# EAGLE library part SD-CARD (library library)
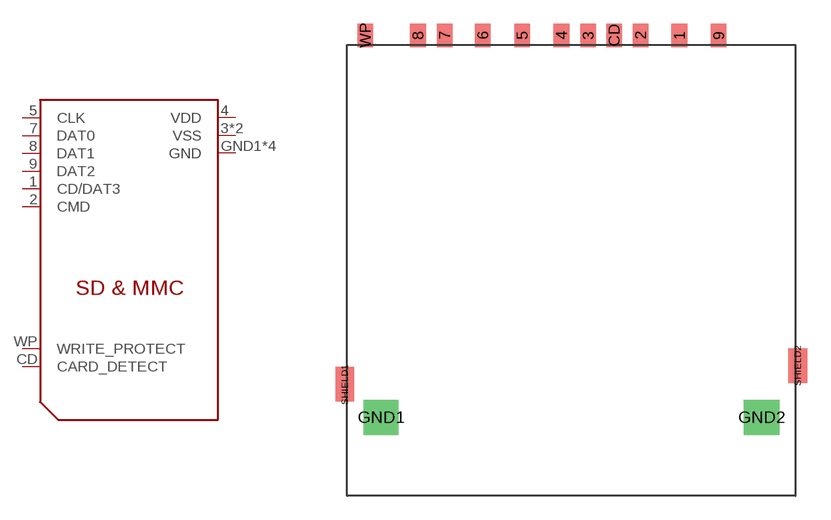
[diagram p1: symbol with the pads of SD_CARD; footprint SD_CARD]

Designator prefix -

## SD-CARD  [SD_CARD]
1  CD/DAT3
2  CMD
3  VSS  pwr
4  VDD  pwr
5  CLK
6  VSS  pwr
7  DAT0
8  DAT1
9  DAT2
CD  CARD_DETECT
GND1  GND  pwr
GND2  GND  pwr
SHIELD1  GND  pwr
SHIELD2  GND  pwr
WP  WRITE_PROTECT

## Footprint SD_CARD (pad centres in mm)
smd 1 x 1.5: 1 6.875,24.3; 2 4.405,24.3; 3 1.075,24.3; 4 -0.625,24.3; 5 -3.125,24.3; 6 -5.625,24.3; 7 -8.05,24.3; 8 -9.75,24.3; 9 9.375,24.3; CD 2.725,24.3; WP -13.1,24.3
drill 1.5 square: GND1 -12.1,0; GND2 12.1,0
smd 1.2 x 2.2: SHIELD1 -14.4,2.1; SHIELD2 14.4,3.3